# Altium footprint library QTH-020-01-F-D-DP-A-K-TR.PcbLib: 1 footprints
Each footprint in its own frame and in the unit in brackets; x right, y up, seen from the top. Pads: shape width x height; smd on the part's side, far side on the other; paste and mask are expansions set on the pad; w line width, h text height; cw(c..) or ccw(c..) is an arc to the next point about the centre after c.
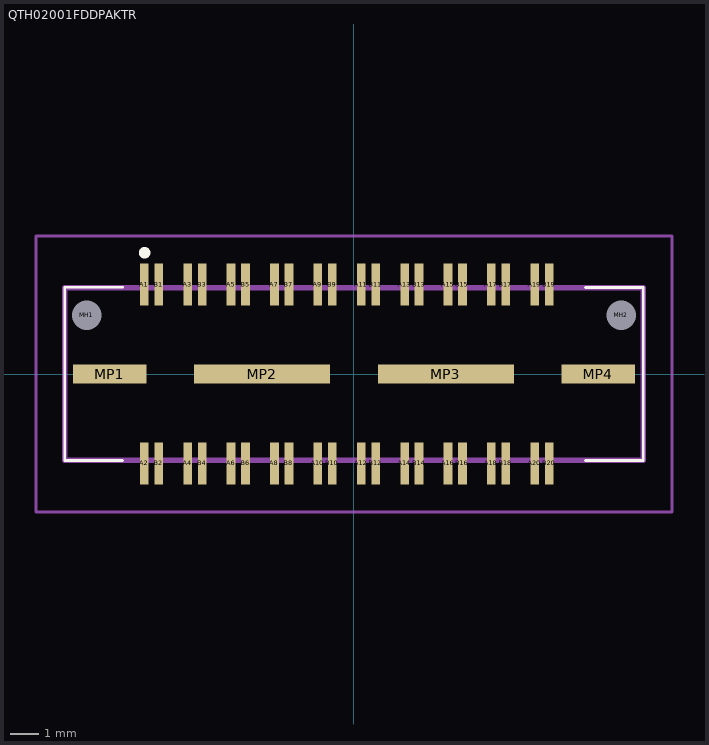
[diagram p0: the footprint, top view; thin cyan lines are the x and y axes]

## QTH02001FDDPAKTR [mm]
pads (46):
  rect 0.3x1.45 smd mask+0.05: A1(-7.25,3.09) A2(-7.25,-3.09) A3(-5.75,3.09) A4(-5.75,-3.09) A5(-4.25,3.09) A6(-4.25,-3.09) A7(-2.75,3.09) A8(-2.75,-3.09) A9(-1.25,3.09) A10(-1.25,-3.09) A11(0.25,3.09) A12(0.25,-3.09) A13(1.75,3.09) A14(1.75,-3.09) A15(3.25,3.09) A16(3.25,-3.09) A17(4.75,3.09) A18(4.75,-3.09) A19(6.25,3.09) A20(6.25,-3.09) B1(-6.75,3.09) B2(-6.75,-3.09) B3(-5.25,3.09) B4(-5.25,-3.09) B5(-3.75,3.09) B6(-3.75,-3.09) B7(-2.25,3.09) B8(-2.25,-3.09) B9(-0.75,3.09) B10(-0.75,-3.09) B11(0.75,3.09) B12(0.75,-3.09) B13(2.25,3.09) B14(2.25,-3.09) B15(3.75,3.09) B16(3.75,-3.09) B17(5.25,3.09) B18(5.25,-3.09) B19(6.75,3.09) B20(6.75,-3.09)
  round 0.51 hole 1.02 unplated: MH1(-9.24,2.03) MH2(9.24,2.03)
  rect 2.54x0.64 smd: MP1(-8.445,0) MP4(8.445,0)
  rect 4.7x0.64 smd: MP2(-3.175,0) MP3(3.175,0)
Top Overlay:
  lines w0.1: -8,-2.985 -10,-2.985 -10,2.985 -8,3 ; 8,-2.985 10,-2.985 10,2.985 8,2.985
  lines w0.2: -7.239,4.091 ccw(c-7.239,4.191) -7.239,4.291 ccw(c-7.239,4.191) -7.239,4.091
Mechanical 13:
  lines w0.2: -10,-2.985 10,-2.985 10,2.985 -10,2.985 -10,-2.985
Mechanical 15:
  lines w0.1: -11,-4.775 11,-4.775 11,4.775 -11,4.775 -11,-4.775
3D body "QTH-020-01-F-D-DP-A-K-TR.stp": height 4.19, standoff -0.97, extent -10,-3.556 10.003,3.556